# Altium footprint library Liquid Tremolo.PcbLib: 19 footprints (part 2 of 2)
Each footprint in its own frame and in the unit in brackets; x right, y up, seen from the top. Pads: shape width x height; smd on the part's side, far side on the other; paste and mask are expansions set on the pad; w line width, h text height; cw(c..) or ccw(c..) is an arc to the next point about the centre after c.
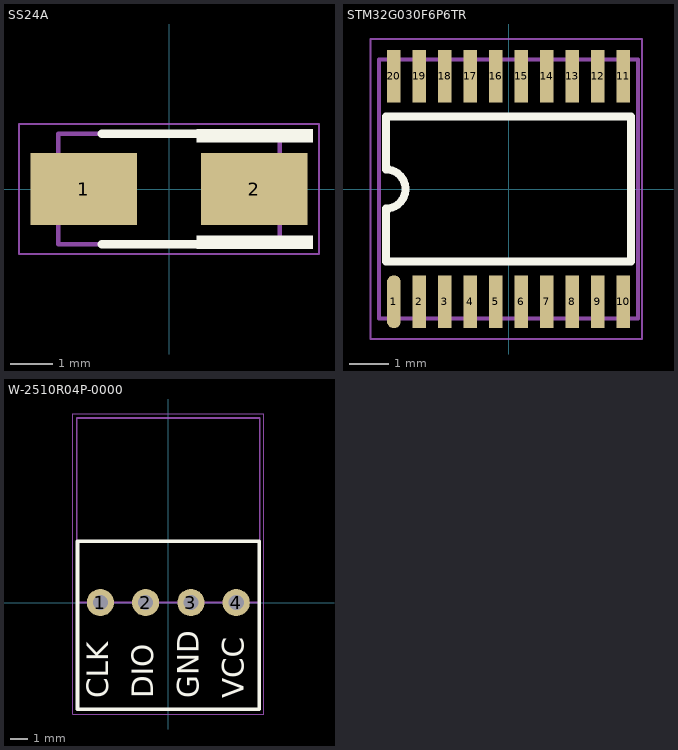
[diagram p1: the footprints below, top view; thin cyan lines are the x and y axes]

## SS24A [mm]
pads (2):
  rect 2.5x1.7 smd: 1(-2,0) 2(2,0)
Top Overlay:
  region: 0.65,-1.1 0.65,-1.4 3.375,-1.4 3.375,-1.1
  region: 0.65,1.1 0.65,1.4 3.375,1.4 3.375,1.1
  lines w0.2: -1.575,-1.3 2.55,-1.3 ; -1.575,1.3 2.55,1.3
Outline:
  lines w0.1: -2.6,-1.3 -2.6,1.3 2.6,1.3 2.6,-1.3 -2.6,-1.3
  text "'.Designator'" at -2.075,-0.15 h0.6
Keep Off:
  lines w0.05: -3.525,-1.525 -3.525,1.525 3.525,1.525 3.525,-1.525 -3.525,-1.525
3D body "User Library-DO-214AC SMA.step": height 2.4, standoff 0, extent -2.6,-1.3 2.6,1.3

## STM32G030F6P6TR [mm]
pads (20):
  oval 0.35x1.35 smd: 1(-2.925,-2.875)
  rect 0.35x1.35 smd: 2(-2.275,-2.875) 3(-1.625,-2.875) 4(-0.975,-2.875) 5(-0.325,-2.875) 6(0.325,-2.875) 7(0.975,-2.875) 8(1.625,-2.875) 9(2.275,-2.875) 10(2.925,-2.875) 11(2.925,2.875) 12(2.275,2.875) 13(1.625,2.875) 14(0.975,2.875) 15(0.325,2.875) 16(-0.325,2.875) 17(-0.975,2.875) 18(-1.625,2.875) 19(-2.275,2.875) 20(-2.925,2.875)
Top Overlay:
  lines w0.2: -3.129,-0.5 ccw(c-3.129,0) -3.129,0.5 ; -3.125,-0.5 -3.125,-1.85 3.125,-1.85 3.125,1.85 -3.125,1.85 -3.125,0.5
Outline:
  lines w0.1: -3.3,-3.3 -3.3,3.3 3.3,3.3 3.3,-3.3 -3.3,-3.3
  text "'.Designator'" at -2.7,-0.3 h1.2
Keep Off:
  lines w0.05: -3.525,-3.825 -3.525,3.825 3.4,3.825 3.4,-3.825 -3.525,-3.825
3D body "User Library-tssop-20-1.step": height 1.2, standoff 0, extent -3.3,-3.3 3.3,3.3

## W-2510R04P-0000 [mil]
pads (4):
  round 60 hole 33.46: 1(-150,0) 2(-50,0) 3(50,0) 4(150,0)
Top Overlay:
  lines w7.87: -200.39,-235.24 -200.39,135.83 200.39,135.83 200.39,-235.24 -200.39,-235.24
  text "VCC" at 167.14,-211.4 h47.24
  text "GND" at 67.14,-211.4 h47.24
  text "DIO" at -32.86,-211.41 h47.24
  text "CLK" at -132.86,-211.4 h47.24
Outline:
  lines w3.94: -201.97,0 -201.97,407.48 201.97,407.48 201.97,0 -201.97,0
  text "'.Designator'" at -169.29,66.92 h47.24
Keep Off:
  lines w1.97: -211.22,-246.06 211.22,-246.06 211.22,416.34 -211.22,416.34 -211.22,-246.06
3D body "User Library-header90-4.STEP": height 119.65, standoff -98.46, extent -200,-12.23 200,395.64